# Altium footprint library DIODE_SMB.PcbLib: 1 footprints
Each footprint in its own frame and in the unit in brackets; x right, y up, seen from the top. Pads: shape width x height; smd on the part's side, far side on the other; paste and mask are expansions set on the pad; w line width, h text height; cw(c..) or ccw(c..) is an arc to the next point about the centre after c.
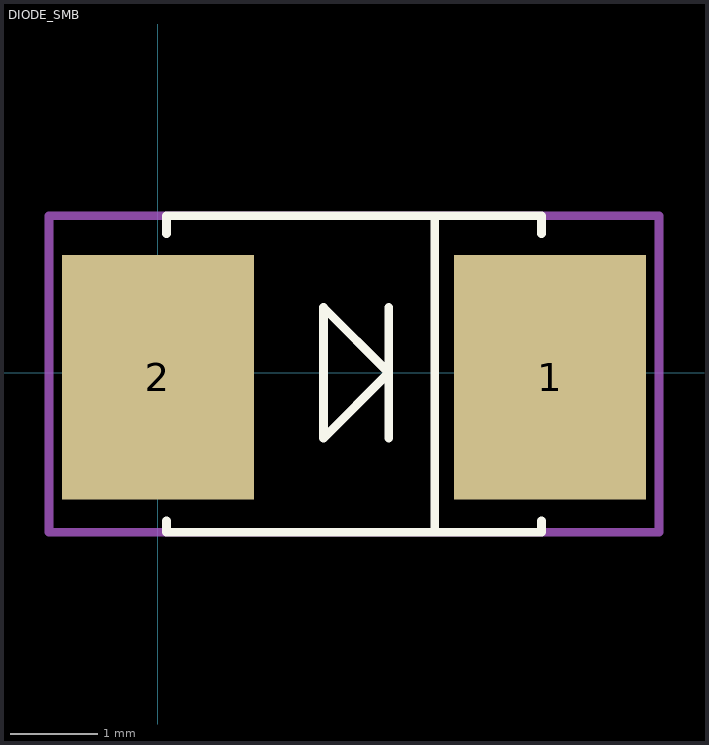
[diagram p0: the footprint, top view; thin cyan lines are the x and y axes]

## DIODE_SMB [mm]
pads (2):
  rect 2.2x2.8 smd: 1(4.5,-0.05) 2(0,-0.05)
Top Overlay:
  lines w0.1: 0.1,-1.7 0.1,-1.829 4.4,-1.829 4.4,-1.7 ; 0.1,1.6 0.1,1.803 4.4,1.803 4.4,1.6 ; 2.65,-0.75 2.65,0.75 ; 3.178,-1.829 3.178,1.803 ; 1.9,-0.75 2.65,0 1.9,0.75 1.9,-0.75
Mechanical 15:
  lines w0.1: -1.25,-1.829 5.75,-1.829 5.75,1.803 -1.25,1.803 -1.25,-1.829
3D body "SW3dPS-DO-214AA SMB.STEP": height 2.3, standoff 0, extent -0.439,-1.822 4.96,1.778